# Altium schematic symbol library ULN2004D1013TR.Schlib: 1 symbol
Pins are listed as number, name and electrical type; pins without a type are passive.

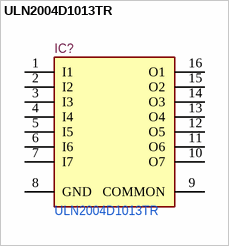
[diagram p0: symbol ULN2004D1013TR]

## ULN2004D1013TR
designator IC?
SOIC-16_150mil Darlington transistor array driver RoHS; Manufacturer 1: Diodes; Manufacturer Part Number 1: ULN2003AS16-13; Max Collector Current: 500mA; Collector Emitter Voltage (VCEO): 1.6V; Continuous Collector Current: 350mA; Output Type: TTL; Collector Emitter Breakdown Voltage: 50V; Supplier 1: Digi-Key; RoHS: Yes; Category: BJTs; Stock 1: 76; Pricing 1: 1=0.49000, 10=0.41700, 25=0.38880, 100=0.28890, 250=0.27440, 500=0.22554, 1000=0.18332 (USD); Mount: Surface Mount; Case/Package: SO; Number of Pins: 16; Weight: 0.007079oz; Min Operating Temperature: -40°C; Max Operating Temperature: 105°C; Packaging: Tape and Reel; Package Quantity: 2500; Lead Free: Lead Free; Supplier Part Number 1: ULN2003AS16-13DICT-ND; LCSC Part #: C164882; ComponentLink1Description: STMicroelectronics ULN2004D1013TR; ComponentLink1URL: https://lcsc.com/product-detail/_STMicroelectronics_ULN2004D1013TR_ULN2004D1013TR_C164882.html; JLCPCB Part Type: Extended
footprint SOIC127P600X175-16N
pins: 1 I1, 2 I2, 3 I3, 4 I4, 5 I5, 6 I6, 7 I7, 8 GND, 9 COMMON, 10 O7, 11 O6, 12 O5, 13 O4, 14 O3, 15 O2, 16 O1